# Altium footprint library 665 1xx 131 822.PcbLib: 7 footprints
Each footprint in its own frame and in the unit in brackets; x right, y up, seen from the top. Pads: shape width x height; smd on the part's side, far side on the other; paste and mask are expansions set on the pad; w line width, h text height; cw(c..) or ccw(c..) is an arc to the next point about the centre after c.
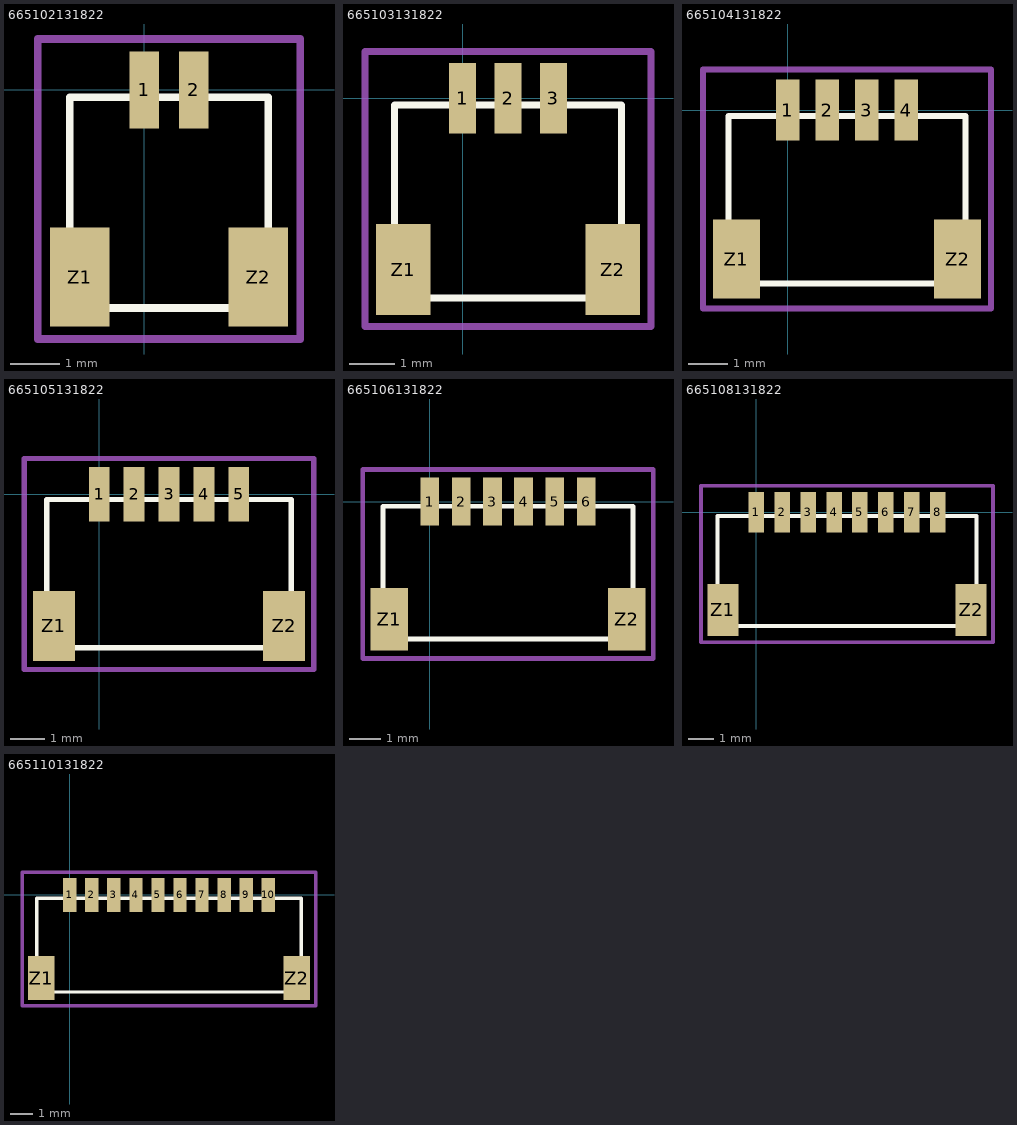
[diagram p0: the footprints below, top view; thin cyan lines are the x and y axes]

## 665102131822 [mm] "ConWTB Wire-to-Board Connectors 1.00 mm SMT Male Horizontal Shrouded Header, 2 pins - Tape & Reel"
height 2.9
pads (4):
  rect 0.6x1.55 smd: 1(0,0) 2(1,0)
  rect 1.2x2 smd: Z1(-1.3,-3.775) Z2(2.3,-3.775)
Top Overlay:
  lines w0.152: -1.5,-4.4 2.5,-4.4 2.5,-0.15 -1.5,-0.15 -1.5,-4.4
Mechanical 15:
  lines w0.152: -2.15,-5.025 3.15,-5.025 3.15,1.025 -2.15,1.025 -2.15,-5.025
3D body "665102131822.stp": height 2.95, standoff -0.02, extent -1.5,-4.4 2.5,0.55

## 665103131822 [mm] "ConWTB Wire-to-Board Connectors 1.00 mm SMT Male Horizontal Shrouded Header, 3 pins - Tape & Reel"
height 2.9
pads (5):
  rect 0.6x1.55 smd: 1(0,0) 2(1,0) 3(2,0)
  rect 1.2x2 smd: Z1(-1.3,-3.775) Z2(3.3,-3.775)
Top Overlay:
  lines w0.152: -1.5,-4.4 3.5,-4.4 3.5,-0.15 -1.5,-0.15 -1.5,-4.4
Mechanical 15:
  lines w0.152: -2.15,-5.025 4.15,-5.025 4.15,1.025 -2.15,1.025 -2.15,-5.025
3D body "665103131822.stp": height 2.95, standoff -0.02, extent -1.5,-4.4 3.5,0.55

## 665104131822 [mm] "ConWTB Wire-to-Board Connectors 1.00 mm SMT Male Horizontal Shrouded Header, 4 pins - Tape & Reel"
height 2.9
pads (6):
  rect 0.6x1.55 smd: 1(0,0) 2(1,0) 3(2,0) 4(3,0)
  rect 1.2x2 smd: Z1(-1.3,-3.775) Z2(4.3,-3.775)
Top Overlay:
  lines w0.152: -1.5,-4.4 -1.5,-0.15 4.5,-0.15 4.5,-4.4 -1.5,-4.4
Mechanical 15:
  lines w0.152: -2.15,-5.025 -2.15,1.025 5.15,1.025 5.15,-5.025 -2.15,-5.025
3D body "665104131822.stp": height 2.95, standoff -0.02, extent -1.5,-4.4 4.5,0.55

## 665105131822 [mm] "ConWTB Wire-to-Board Connectors 1.00 mm SMT Male Horizontal Shrouded Header, 5 pins - Tape & Reel"
height 2.9
pads (7):
  rect 0.6x1.55 smd: 1(0,0) 2(1,0) 3(2,0) 4(3,0) 5(4,0)
  rect 1.2x2 smd: Z1(-1.3,-3.775) Z2(5.3,-3.775)
Top Overlay:
  lines w0.152: -1.5,-4.4 -1.5,-0.15 5.5,-0.15 5.5,-4.4 -1.5,-4.4
Mechanical 15:
  lines w0.152: -2.15,-5.025 -2.15,1.025 6.15,1.025 6.15,-5.025 -2.15,-5.025
3D body "665105131822.stp": height 2.95, standoff -0.02, extent -1.5,-4.4 5.5,0.55

## 665106131822 [mm] "ConWTB Wire-to-Board Connectors 1.00 mm SMT Male Horizontal Shrouded Header, 6 pins - Tape & Reel"
height 2.9
pads (8):
  rect 0.6x1.55 smd: 1(0,0) 2(1,0) 3(2,0) 4(3,0) 5(4,0) 6(5,0)
  rect 1.2x2 smd: Z1(-1.3,-3.775) Z2(6.3,-3.775)
Top Overlay:
  lines w0.152: -1.5,-4.4 6.5,-4.4 6.5,-0.15 -1.5,-0.15 -1.5,-4.4
Mechanical 15:
  lines w0.152: -2.15,-5.025 7.15,-5.025 7.15,1.025 -2.15,1.025 -2.15,-5.025
3D body "665106131822.stp": height 2.95, standoff -0.02, extent -1.5,-4.4 6.5,0.55

## 665108131822 [mm] "ConWTB Wire-to-Board Connectors 1.00 mm SMT Male Horizontal Shrouded Header, 8 pins - Tape & Reel"
height 2.9
pads (10):
  rect 0.6x1.55 smd: 1(0,0) 2(1,0) 3(2,0) 4(3,0) 5(4,0) 6(5,0) 7(6,0) 8(7,0)
  rect 1.2x2 smd: Z1(-1.3,-3.775) Z2(8.3,-3.775)
Top Overlay:
  lines w0.152: -1.5,-4.4 -1.5,-0.15 8.5,-0.15 8.5,-4.4 -1.5,-4.4
Mechanical 15:
  lines w0.152: -2.15,-5.025 -2.15,1.025 9.15,1.025 9.15,-5.025 -2.15,-5.025
3D body "665108131822.stp": height 2.95, standoff -0.02, extent -1.5,-4.4 8.5,0.55

## 665110131822 [mm] "ConWTB Wire-to-Board Connectors 1.00 mm SMT Male Horizontal Shrouded Header, 10 pins - Tape & Reel"
height 2.9
pads (12):
  rect 0.6x1.55 smd: 1(0,0) 2(1,0) 3(2,0) 4(3,0) 5(4,0) 6(5,0) 7(6,0) 8(7,0) 9(8,0) 10(9,0)
  rect 1.2x2 smd: Z1(-1.3,-3.775) Z2(10.3,-3.775)
Top Overlay:
  lines w0.152: -1.5,-4.4 10.5,-4.4 10.5,-0.15 -1.5,-0.15 -1.5,-4.4
Mechanical 15:
  lines w0.152: -2.15,-5.025 11.15,-5.025 11.15,1.025 -2.15,1.025 -2.15,-5.025
3D body "665110131822.stp": height 2.95, standoff -0.02, extent -1.5,-4.4 10.5,0.55